# Altium footprint library TO_THD.PCBLIB: 40 footprints (part 2 of 3)
Each footprint in its own frame and in the unit in brackets; x right, y up, seen from the top. Pads: shape width x height; smd on the part's side, far side on the other; paste and mask are expansions set on the pad; w line width, h text height; cw(c..) or ccw(c..) is an arc to the next point about the centre after c.
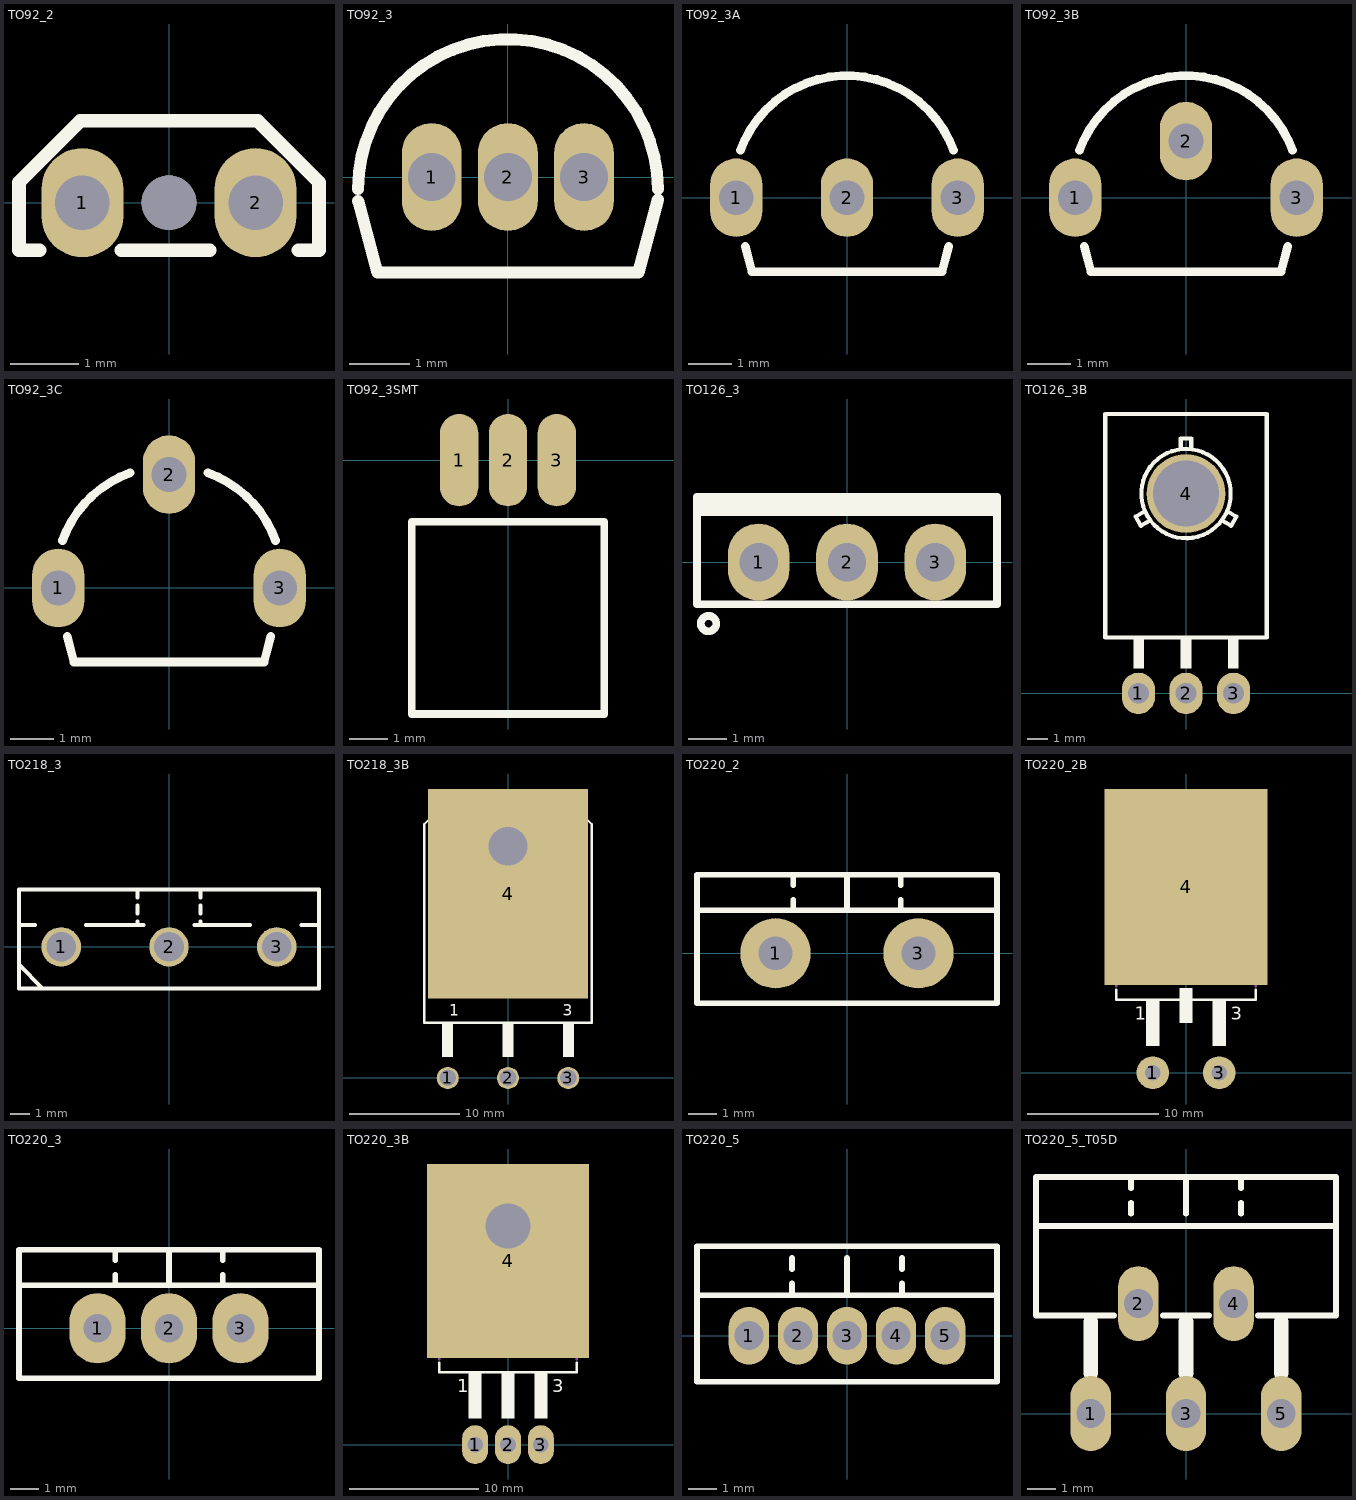
[diagram p1: the footprints below, top view; thin cyan lines are the x and y axes]

## TO92_2 [mm] "TO-92 LPG"
pads (3):
  oval 1.2x1.6 hole 0.8 mask+0.1: 1(-1.27,0) 2(1.27,0)
  round 0.8 hole 0.8 unplated mask+0.1: ""(0,0)
TopOverlay:
  lines w0.2: -1.9,-0.7 -2.2,-0.7 -2.2,0.3 -1.3,1.2 1.3,1.2 2.2,0.3 2.2,-0.7 1.9,-0.7 ; -0.7,-0.7 0.6,-0.7
3D body "User Library-TI_LPG0002A_TO-92_Temp_Sensor.step": height 5.55, standoff -2.54, extent -2.05,-0.55 2.05,1.07

## TO92_3 [mm] "TO-92, SOT54"
pads (3):
  oval 1x1.8 hole 0.8 mask+0.1: 1(-1.27,0) 2(0,0) 3(1.27,0)
TopOverlay:
  lines w0.2: -2.5,-0.2 cw(c0,-0.2) 2.5,-0.2 ; -2.497,-0.399 -2.178,-1.589 2.178,-1.589 2.504,-0.374
3D body "User Library-KSP92 Transistors PNP TO-92 3L (2,54mm).step": height 4.82, standoff -14.7, extent -2.38,-1.45 2.38,2.18

## TO92_3A [mm] "TO-92 BENDED TO-226, SOT54A"
pads (3):
  oval 1.2x1.8 hole 0.8: 1(-2.54,0) 2(0,0) 3(2.54,0)
TopOverlay:
  lines w0.2: -2.443,1.089 cw(c0,0.2) 2.443,1.089 ; -2.337,-1.11 -2.178,-1.7 2.178,-1.7 2.337,-1.11
3D body "User Library-TO-92_Bent.STEP": height 7.8, standoff -5.2, extent -2.79,-1.59 2.79,2.613

## TO92_3B [mm] "TO-92 BENDED TO-226"
pads (3):
  oval 1.2x1.8 hole 0.8: 1(-2.54,0) 2(0,1.3) 3(2.54,0)
TopOverlay:
  lines w0.2: -2.443,1.089 cw(c0,0.2) 2.443,1.089 ; -2.337,-1.11 -2.178,-1.7 2.178,-1.7 2.337,-1.11
3D body "ALSRobot-TO-92B.step": height 7.34, standoff -0.7, extent -2.84,-1.4 2.84,2.4

## TO92_3C [mm] "TO-92 BENDED TO-226"
pads (3):
  oval 1.2x1.8 hole 0.8: 1(-2.54,0) 2(0,2.6) 3(2.54,0)
TopOverlay:
  lines w0.2: -2.443,1.089 cw(c0,0.2) -0.889,2.643 ; -2.337,-1.11 -2.178,-1.7 2.178,-1.7 2.337,-1.11 ; 0.889,2.643 cw(c0,0.2) 2.443,1.089
3D body "User Library-TO-92D.step": height 8, standoff -3.02, extent -2.787,-1.53 2.787,2.81

## TO92_3SMT [mm] "TO-92"
height 7.62
pads (3):
  oval 1x2.4 smd mask+0.1: 1(-1.27,0) 2(0,0) 3(1.27,0)
TopOverlay:
  lines w0.2: -2.5,-6.6 -2.5,-1.6 2.5,-1.6 2.5,-6.6 -2.5,-6.6
3D body "CircuitWorks-TO-92B.step": height 3.59, standoff 0.28, extent -2.272,-6.6 2.3,1.86

## TO126_3 [mm] "TO126, TO-126, SOT32 (PHIPLIPS), pitch: 2.3mm, 8X3mm"
pads (3):
  oval 1.6x2 hole 1: 1(-2.3,0) 2(0,0) 3(2.3,0)
TopOverlay:
  circle w0.2: c-3.6,-1.6 r0.2
  rectangle: -3.9,1.2 3.9,1.7
  lines w0.2: -3.9,-1.1 3.9,-1.1 3.9,1.7 -3.9,1.7 -3.9,-1.1
3D body "User Library-TO-126 (SOT32) Gold PCB.STEP": height 13.19, standoff -3.54, extent -3.8,-1 3.8,1.55

## TO126_3B [mm] "TO126, TO-126, SOT32 (PHIPLIPS), BEND pitch: 2.3mm, 8X3mm"
pads (4):
  oval 1.6x2 hole 1: 1(-2.3,0) 2(0,0) 3(2.3,0)
  round 3.81 hole 3.2: 4(0,9.652)
TopOverlay:
  circle w0.2: c0,9.652 r2.159
  rectangle: -2.54,1.2 -2.032,2.64
  rectangle: -0.254,1.2 0.254,2.64
  rectangle: 2.032,1.2 2.54,2.64
  lines w0.2: -1.997,8.792 -2.437,8.538 -2.183,8.099 -1.743,8.353 ; -0.254,11.811 -0.254,12.319 0.254,12.319 0.254,11.811 ; 1.743,8.353 2.183,8.099 2.437,8.538 1.997,8.792 ; -3.9,2.7 3.9,2.7 3.9,13.5 -3.9,13.5 -3.9,2.7
3D body "User Library-TO-126 (SOT32) Gold PCB.STEP": height 2.5, standoff -0.05, extent -3.8,-3.34 3.8,13.39

## TO218_3 [mm] "TO218, TO-218, SOT-93, pitch: 5.5mm"
pads (3):
  round 2 / inner round 2 / far side oval 2.4x3.6 hole 1.5: 1(-5.461,0) 2(0,0) 3(5.461,0)
TopOverlay:
  lines w0.2: -7.6,-0.9 -6.4,-2.1 ; -7.6,1.1 -6.8,1.1 ; -4.2,1.1 -1.3,1.1 ; -1.6,1.1 -1.6,1.3 ; -1.6,1.7 -1.6,2.1 ; -1.6,2.5 -1.6,2.9 ; 1.3,1.1 4.1,1.1 ; 1.6,1.1 1.6,1.3 ; 1.6,1.7 1.6,2.1 ; 1.6,2.5 1.6,2.9 ; 6.7,1.1 7.6,1.1 ; -7.6,-2.1 7.6,-2.1 7.6,2.9 -7.6,2.9 -7.6,-2.1
3D body "User Library-TO218.STEP": height 22.23, standoff -3, extent -7.475,-1.981 7.525,2.819

## TO218_3B [mm] "O218, TO-218, SOT-93, pitch: 5.5mm BENDED"
pads (4):
  round 2 / inner round 2 / far side oval 2.4x3.6 hole 1.5: 1(-5.461,0) 2(0,0) 3(5.461,0)
  rect 14.5x19 smd: 4(0,16.701)
via 0,21.012 diameter 3.5 hole 3.5
TopOverlay:
  rectangle: -0.508,1.9 0.508,5
  rectangle: -5.988,1.9 -4.972,5
  region: 5.988,5 4.972,5 4.972,1.9 5.988,1.9
  lines w0.2: -7.6,5 -7.6,23 -5.6,25 5.6,25 7.6,23 7.6,5 -7.6,5
  text "1" at -5.334,5.653 h1.02
  text "3" at 4.953,5.653 h1.02
Mechanical1:
  circle w0.2: c0,21 r2
3D body "User Library-TO218-O.STEP": height 4.82, standoff -3, extent -7.499,-0.319 7.501,24.909

## TO220_2 [mm]
pads (2):
  round 2.5 hole 1.2: 1(-2.54,0) 3(2.54,0)
TopOverlay:
  lines w0.2: -5.334,1.524 5.334,1.524 ; -1.905,1.524 -1.905,1.905 ; -1.905,2.413 -1.905,2.794 ; 0,1.524 0,2.794 ; 1.905,1.524 1.905,1.905 ; 1.905,2.413 1.905,2.794 ; -5.334,-1.778 -5.334,2.794 5.334,2.794 5.334,-1.778 -5.334,-1.778
3D body "User Library-TO220-2_V-S.STEP": height 19.3, standoff -2.9, extent -5,-1.7 5,2.8

## TO220_2B [mm]
pads (3):
  round 2.5 hole 1.2: 1(-2.54,-0.012) 3(2.54,-0.012)
  rect 12.5x15 smd: 4(0,14.2)
TopOverlay:
  rectangle: 2.032,2.02 3.048,5.576
  rectangle: -3.048,2.02 -2.032,5.576
  rectangle: -0.508,3.798 0.508,6.465
  lines w0.2: -5.334,6.338 -5.334,5.576 5.334,5.576 5.334,6.338
  text "3" at 3.429,4.052 h1.02
  text "1" at -3.937,4.052 h1.02
Mechanical1:
  circle w0.2: c0,17.768 r2.032
  lines w0.2: -5.334,6.592 -5.334,20.816 5.334,20.816 5.334,6.592
3D body "User Library-TO220-2_V-S.STEP": height 4.52, standoff 0.02, extent -5,-1 5,21.2

## TO220_3 [mm] "TO-220 3 LEAD, TO-262, pitch: 2.54mm  10x4.5mm"
pads (3):
  oval 2x2.5 hole 1: 1(-2.54,0) 2(0,0) 3(2.54,0)
TopOverlay:
  lines w0.2: -5.334,1.524 5.334,1.524 ; -1.905,1.524 -1.905,1.905 ; -1.905,2.413 -1.905,2.794 ; 0,1.524 0,2.794 ; 1.905,1.524 1.905,1.905 ; 1.905,2.413 1.905,2.794 ; -5.334,-1.778 -5.334,2.794 5.334,2.794 5.334,-1.778 -5.334,-1.778
3D body "User Library-TO3B_(TO220)_1.step": height 19, standoff -9.4, extent -5.2,-1.85 5.2,2.65

## TO220_3B [mm] "TO-220 3LEAD, pitch: 2.54mm  10x15mm"
pads (4):
  oval 2x3 hole 1.2: 1(-2.54,0) 2(0,0) 3(2.54,0)
  rect 12.5x15 smd: 4(0,14.212)
via 0,16.912 diameter 3.5 hole 3.5
TopOverlay:
  rectangle: -3.048,2.032 -2.032,5.588
  rectangle: 2.032,2.032 3.048,5.588
  rectangle: -0.508,2.032 0.508,5.588
  lines w0.2: -5.334,6.35 -5.334,5.588 5.334,5.588 5.334,6.35
  text "1" at -3.937,4.064 h1.02
  text "3" at 3.429,4.064 h1.02
Mechanical1:
  circle w0.2: c0,16.9 r2
  lines w0.2: -5.334,6.604 -5.334,20.828 5.334,20.828 5.334,6.604
3D body "User Library-TO220 L.step": height 4.5, standoff -3, extent -5,0 5,19.704

## TO220_5 [mm] "TO-220 STRAIGHT, T05A pitch: 1.7mm"
pads (5):
  oval 1.4x2 hole 1: 1(-3.4,0) 2(-1.7,0) 3(0,0) 4(1.7,0) 5(3.4,0)
TopOverlay:
  lines w0.2: -5.2,1.4 5.2,1.4 ; -1.905,1.424 -1.905,1.805 ; -1.905,2.313 -1.905,2.694 ; 0,1.424 0,2.694 ; 1.905,1.424 1.905,1.805 ; 1.905,2.313 1.905,2.694 ; -5.2,-1.6 -5.2,3.1 5.2,3.1 5.2,-1.6 -5.2,-1.6
3D body "User Library-TO220-5T PCB.step": height 17.05, standoff -6.52, extent -5.06,-1.55 5.06,2.907

## TO220_5_T05D [mm] "TO-220 BEND, T05D, PENTAWATT"
pads (5):
  oval 1.4x2.6 hole 1: 1(-3.302,0) 2(-1.651,3.81) 3(0,0) 4(1.651,3.81) 5(3.302,0)
TopOverlay:
  lines w0.2: -5.2,6.5 5.1,6.5 ; -2.5,3.4 -5.2,3.4 -5.2,8.2 5.2,8.2 5.2,3.4 2.5,3.4 ; -1.905,6.923 -1.905,7.304 ; -1.905,7.812 -1.905,8.193 ; -0.8,3.4 0.8,3.4 ; 0,6.923 0,8.193 ; 1.905,6.923 1.905,7.304 ; 1.905,7.812 1.905,8.193
  lines w0.508: -3.302,1.397 -3.302,3.175 ; 0,1.397 0,3.175 ; 3.302,1.397 3.302,3.175
3D body "SW3dPS-TO220-5 BEND-LEAD.STEP": height 22.35, standoff -1.64, extent -5.08,-0.183 5.08,8.057